# EAGLE library part AVR_SPI_PRG_6 (library CDC Library v105)
AVR ISP 6 Pin This is the reduced ISP connector for AVR programming. Common on Arduino. This footprint will take up less PCB space and can be used with a 10-pin to 6-pin adapter such as SKU: BOB-08508 **Special note about "TEST_POINT" package. The stop mask is on the top side, so if you want your programming test points to be on the bottom of your board, make sure to place this package on the bottom side of the board. This also ensure that the orientation to program from the bottom side will be correct.
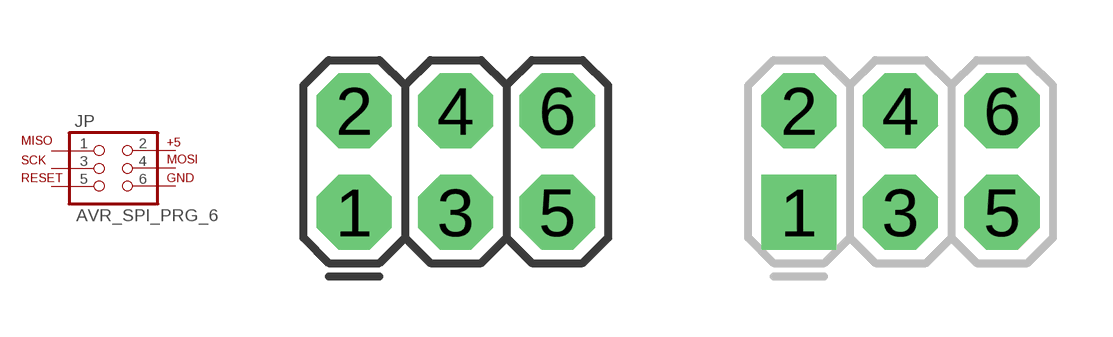
[diagram p9: symbol with the pads of 2X3; footprints 2X3, 2X3-NS]

Designator prefix JP

## AVR_SPI_PRG_6PTH  [2X3]
1  1  pas
2  2  pas
3  3  pas
4  4  pas
5  5  pas
6  6  pas

## AVR_SPI_PRG_6NS  [2X3-NS]
Pads as for 2X3

## AVR_SPI_PRG_6OFFSET_PADS  [2X3_OFFSET]
Pads as for 2X3

## AVR_SPI_PRG_62X3_LOCK  [2X3_LOCK]
Pads as for 2X3

## AVR_SPI_PRG_6TESTPOINTS  [2X3_TEST_POINTS]
Pads as for 2X3

## AVR_SPI_PRG_6  [2X3-SMD]
P1  1  pas
P2  2  pas
P3  3  pas
P4  4  pas
P5  5  pas
P6  6  pas

## AVR_SPI_PRG_61X6  [1X6-SMD]
Pads as for 2X3-SMD

## AVR_SPI_PRG_61X6_THT  [1X6-THT]
Pads as for 2X3-SMD

## Footprint 2X3 (pad centres in mm)
drill 1.016 pad 1.88 octagon: 1 0,0; 2 0,2.54; 3 2.54,0; 4 2.54,2.54; 5 5.08,0; 6 5.08,2.54

## Footprint 2X3-NS (pad centres in mm)
drill 1.016 pad 1.88 square: 1 -2.54,-1.27
drill 1.016 pad 1.88 octagon: 2 -2.54,1.27; 3 0,-1.27; 4 0,1.27; 5 2.54,-1.27; 6 2.54,1.27

## Footprint 2X3_OFFSET (pad centres in mm)
drill 1.118 pad 1.88 offset: 1 -2.54,-1.27; 2 -2.54,1.27; 3 0,-1.27; 4 0,1.27; 5 2.54,-1.27; 6 2.54,1.27

## Footprint 2X3_LOCK (pad centres in mm)
drill 1.016 pad 1.88 octagon: 1 0,0; 2 0,2.54; 3 2.54,-0.254; 4 2.54,2.286; 5 5.08,0; 6 5.08,2.54

## Footprint 2X3_TEST_POINTS (pad centres in mm)
drill 0.508: 1 -2.54,-1.27; 2 -2.54,1.27; 3 0,-1.27; 4 0,1.27; 5 2.54,-1.27; 6 2.54,1.27

## Footprint 2X3-SMD (pad centres in mm)
smd 0.813 x 1.676: P1 -2.54,-1.27; P2 -2.54,1.27; P3 0,-1.27; P4 0,1.27; P5 2.54,-1.27; P6 2.54,1.27

## Footprint 1X6-SMD (pad centres in mm)
smd 0.813 x 1.676: P1 -2.54,0; P2 -1.27,0; P3 0,0; P4 1.27,0; P5 2.54,0; P6 3.81,0

## Footprint 1X6-THT (pad centres in mm)
smd 1 x 2: P1 -6.35,0; P2 -3.81,0; P3 -1.27,0; P4 1.27,0; P5 3.81,0; P6 6.35,0